# Altium footprint library ic-package.PCBLIB: 75 footprints (part 2 of 5)
Each footprint in its own frame and in the unit in brackets; x right, y up, seen from the top. Pads: shape width x height; smd on the part's side, far side on the other; paste and mask are expansions set on the pad; w line width, h text height; cw(c..) or ccw(c..) is an arc to the next point about the centre after c.
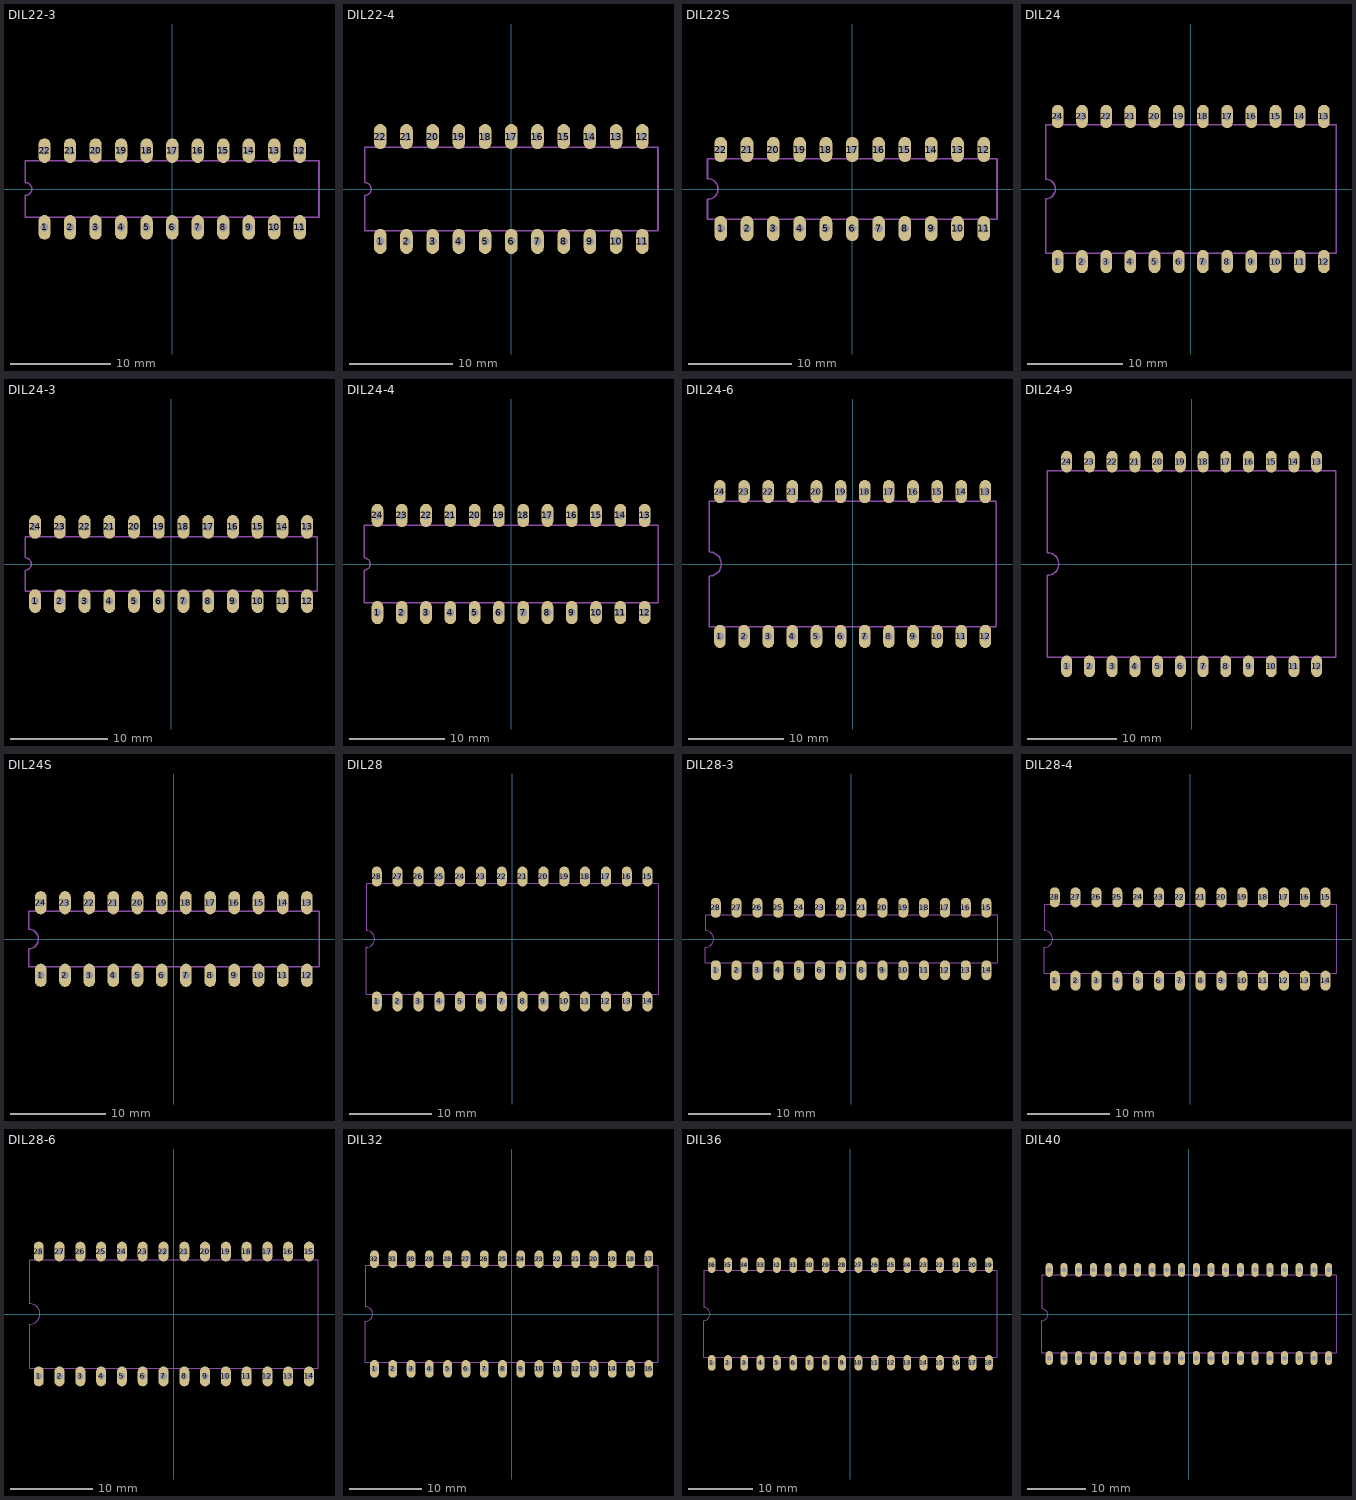
[diagram p1: the footprints below, top view; thin cyan lines are the x and y axes]

## DIL22-3 [mil]
pads (22):
  oval 48x96 hole 32: 1(-500,-150) 2(-400,-150) 3(-300,-150) 4(-200,-150) 5(-100,-150) 6(0,-150) 7(100,-150) 8(200,-150) 9(300,-150) 10(400,-150) 11(500,-150) 12(500,150) 13(400,150) 14(300,150) 15(200,150) 16(100,150) 17(0,150) 18(-100,150) 19(-200,150) 20(-300,150) 21(-400,150) 22(-500,150)
Mechanical 2:
  lines w6: -575,-110 -575,-25 ccw(c-575,0) -575,25 -575,110 575,110 575,-110 -575,-110

## DIL22-4 [mil]
pads (22):
  oval 48x96 hole 32: 1(-500,-200) 2(-400,-200) 3(-300,-200) 4(-200,-200) 5(-100,-200) 6(0,-200) 7(100,-200) 8(200,-200) 9(300,-200) 10(400,-200) 11(500,-200) 12(500,200) 13(400,200) 14(300,200) 15(200,200) 16(100,200) 17(0,200) 18(-100,200) 19(-200,200) 20(-300,200) 21(-400,200) 22(-500,200)
Mechanical 2:
  lines w6: -560,-160 -560,-25 ccw(c-560,0) -560,25 -560,160 560,160 560,-160 -560,-160

## DIL22S [mil]
pads (22):
  oval 48x96 hole 32: 1(-500,-150) 2(-400,-150) 3(-300,-150) 4(-200,-150) 5(-100,-150) 6(0,-150) 7(100,-150) 8(200,-150) 9(300,-150) 10(400,-150) 11(500,-150) 12(500,150) 13(400,150) 14(300,150) 15(200,150) 16(100,150) 17(0,150) 18(-100,150) 19(-200,150) 20(-300,150) 21(-400,150) 22(-500,150)
Mechanical 2:
  lines w6: -550,-115 550,-115 550,115 -550,115 -550,40 cw(c-550,0) -550,-40 -550,-115

## DIL24 [mil]
pads (24):
  oval 48x96 hole 32: 1(-550,-300) 2(-450,-300) 3(-350,-300) 4(-250,-300) 5(-150,-300) 6(-50,-300) 7(50,-300) 8(150,-300) 9(250,-300) 10(350,-300) 11(450,-300) 12(550,-300) 13(550,300) 14(450,300) 15(350,300) 16(250,300) 17(150,300) 18(50,300) 19(-50,300) 20(-150,300) 21(-250,300) 22(-350,300) 23(-450,300) 24(-550,300)
Mechanical 2:
  lines w6: -600,-265 -600,-40 ccw(c-600,0) -600,40 -600,265 600,265 600,-265 -600,-265

## DIL24-3 [mil]
pads (24):
  oval 48x96 hole 32: 1(-550,-150) 2(-450,-150) 3(-350,-150) 4(-250,-150) 5(-150,-150) 6(-50,-150) 7(50,-150) 8(150,-150) 9(250,-150) 10(350,-150) 11(450,-150) 12(550,-150) 13(550,150) 14(450,150) 15(350,150) 16(250,150) 17(150,150) 18(50,150) 19(-50,150) 20(-150,150) 21(-250,150) 22(-350,150) 23(-450,150) 24(-550,150)
Mechanical 2:
  lines w6: -590,-110 -590,-25 ccw(c-590,0) -590,25 -590,110 590,110 590,-110 -590,-110

## DIL24-4 [mil]
pads (24):
  oval 48x96 hole 32: 1(-550,-200) 2(-450,-200) 3(-350,-200) 4(-250,-200) 5(-150,-200) 6(-50,-200) 7(50,-200) 8(150,-200) 9(250,-200) 10(350,-200) 11(450,-200) 12(550,-200) 13(550,200) 14(450,200) 15(350,200) 16(250,200) 17(150,200) 18(50,200) 19(-50,200) 20(-150,200) 21(-250,200) 22(-350,200) 23(-450,200) 24(-550,200)
Mechanical 2:
  lines w6: -605,-160 -605,-25 ccw(c-605,0) -605,25 -605,160 605,160 605,-160 -605,-160

## DIL24-6 [mil]
pads (24):
  oval 48x96 hole 32: 1(-550,-300) 2(-450,-300) 3(-350,-300) 4(-250,-300) 5(-150,-300) 6(-50,-300) 7(50,-300) 8(150,-300) 9(250,-300) 10(350,-300) 11(450,-300) 12(550,-300) 13(550,300) 14(450,300) 15(350,300) 16(250,300) 17(150,300) 18(50,300) 19(-50,300) 20(-150,300) 21(-250,300) 22(-350,300) 23(-450,300) 24(-550,300)
Mechanical 2:
  lines w6: -595,-260 -595,-50 ccw(c-595,0) -595,50 -595,260 595,260 595,-260 -595,-260

## DIL24-9 [mil]
pads (24):
  oval 48x96 hole 32: 1(-550,-450) 2(-450,-450) 3(-350,-450) 4(-250,-450) 5(-150,-450) 6(-50,-450) 7(50,-450) 8(150,-450) 9(250,-450) 10(350,-450) 11(450,-450) 12(550,-450) 13(550,450) 14(450,450) 15(350,450) 16(250,450) 17(150,450) 18(50,450) 19(-50,450) 20(-150,450) 21(-250,450) 22(-350,450) 23(-450,450) 24(-550,450)
Mechanical 2:
  lines w6: -635,-410 -635,-50 ccw(c-635,0) -635,50 -635,410 635,410 635,-410 -635,-410

## DIL24S [mil]
pads (24):
  oval 48x96 hole 32: 1(-550,-150) 2(-450,-150) 3(-350,-150) 4(-250,-150) 5(-150,-150) 6(-50,-150) 7(50,-150) 8(150,-150) 9(250,-150) 10(350,-150) 11(450,-150) 12(550,-150) 13(550,150) 14(450,150) 15(350,150) 16(250,150) 17(150,150) 18(50,150) 19(-50,150) 20(-150,150) 21(-250,150) 22(-350,150) 23(-450,150) 24(-550,150)
Mechanical 2:
  lines w6: -600,-115 600,-115 600,115 -600,115 -600,40 cw(c-600,0) -600,-40 -600,-115

## DIL28 [mil]
pads (28):
  oval 48x96 hole 32: 1(-650,-300) 2(-550,-300) 3(-450,-300) 4(-350,-300) 5(-250,-300) 6(-150,-300) 7(-50,-300) 8(50,-300) 9(150,-300) 10(250,-300) 11(350,-300) 12(450,-300) 13(550,-300) 14(650,-300) 15(650,300) 16(550,300) 17(450,300) 18(350,300) 19(250,300) 20(150,300) 21(50,300) 22(-50,300) 23(-150,300) 24(-250,300) 25(-350,300) 26(-450,300) 27(-550,300) 28(-650,300)
Mechanical 2:
  lines w6: -700,-265 700,-265 700,265 -700,265 -700,40 cw(c-700,0) -700,-40 -700,-265

## DIL28-3 [mil]
pads (28):
  oval 48x96 hole 32: 1(-650,-150) 2(-550,-150) 3(-450,-150) 4(-350,-150) 5(-250,-150) 6(-150,-150) 7(-50,-150) 8(50,-150) 9(150,-150) 10(250,-150) 11(350,-150) 12(450,-150) 13(550,-150) 14(650,-150) 15(650,150) 16(550,150) 17(450,150) 18(350,150) 19(250,150) 20(150,150) 21(50,150) 22(-50,150) 23(-150,150) 24(-250,150) 25(-350,150) 26(-450,150) 27(-550,150) 28(-650,150)
Mechanical 2:
  lines w6: -700,-115 700,-115 700,115 -700,115 -700,40 cw(c-700,0) -700,-40 -700,-115

## DIL28-4 [mil]
pads (28):
  oval 48x96 hole 32: 1(-650,-200) 2(-550,-200) 3(-450,-200) 4(-350,-200) 5(-250,-200) 6(-150,-200) 7(-50,-200) 8(50,-200) 9(150,-200) 10(250,-200) 11(350,-200) 12(450,-200) 13(550,-200) 14(650,-200) 15(650,200) 16(550,200) 17(450,200) 18(350,200) 19(250,200) 20(150,200) 21(50,200) 22(-50,200) 23(-150,200) 24(-250,200) 25(-350,200) 26(-450,200) 27(-550,200) 28(-650,200)
Mechanical 2:
  lines w6: -700,-165 700,-165 700,165 -700,165 -700,40 cw(c-700,0) -700,-40 -700,-165

## DIL28-6 [mil]
pads (28):
  oval 48x96 hole 32: 1(-650,-300) 2(-550,-300) 3(-450,-300) 4(-350,-300) 5(-250,-300) 6(-150,-300) 7(-50,-300) 8(50,-300) 9(150,-300) 10(250,-300) 11(350,-300) 12(450,-300) 13(550,-300) 14(650,-300) 15(650,300) 16(550,300) 17(450,300) 18(350,300) 19(250,300) 20(150,300) 21(50,300) 22(-50,300) 23(-150,300) 24(-250,300) 25(-350,300) 26(-450,300) 27(-550,300) 28(-650,300)
Mechanical 2:
  lines w6: -695,-260 -695,-50 ccw(c-695,0) -695,50 -695,260 695,260 695,-260 -695,-260

## DIL32 [mil]
pads (32):
  oval 48x96 hole 32: 1(-750,-300) 2(-650,-300) 3(-550,-300) 4(-450,-300) 5(-350,-300) 6(-250,-300) 7(-150,-300) 8(-50,-300) 9(50,-300) 10(150,-300) 11(250,-300) 12(350,-300) 13(450,-300) 14(550,-300) 15(650,-300) 16(750,-300) 17(750,300) 18(650,300) 19(550,300) 20(450,300) 21(350,300) 22(250,300) 23(150,300) 24(50,300) 25(-50,300) 26(-150,300) 27(-250,300) 28(-350,300) 29(-450,300) 30(-550,300) 31(-650,300) 32(-750,300)
Mechanical 2:
  lines w6: -800,-265 800,-265 800,265 -800,265 -800,40 cw(c-800,0) -800,-40 -800,-265

## DIL36 [mil]
pads (36):
  oval 48x96 hole 32: 1(-850,-300) 2(-750,-300) 3(-650,-300) 4(-550,-300) 5(-450,-300) 6(-350,-300) 7(-250,-300) 8(-150,-300) 9(-50,-300) 10(50,-300) 11(150,-300) 12(250,-300) 13(350,-300) 14(450,-300) 15(550,-300) 16(650,-300) 17(750,-300) 18(850,-300) 19(850,300) 20(750,300) 21(650,300) 22(550,300) 23(450,300) 24(350,300) 25(250,300) 26(150,300) 27(50,300) 28(-50,300) 29(-150,300) 30(-250,300) 31(-350,300) 32(-450,300) 33(-550,300) 34(-650,300) 35(-750,300) 36(-850,300)
Mechanical 2:
  lines w6: -900,-265 900,-265 900,265 -900,265 -900,40 cw(c-900,0) -900,-40 -900,-265

## DIL40 [mil]
pads (40):
  oval 48x96 hole 32: 1(-950,-300) 2(-850,-300) 3(-750,-300) 4(-650,-300) 5(-550,-300) 6(-450,-300) 7(-350,-300) 8(-250,-300) 9(-150,-300) 10(-50,-300) 11(50,-300) 12(150,-300) 13(250,-300) 14(350,-300) 15(450,-300) 16(550,-300) 17(650,-300) 18(750,-300) 19(850,-300) 20(950,-300) 21(950,300) 22(850,300) 23(750,300) 24(650,300) 25(550,300) 26(450,300) 27(350,300) 28(250,300) 29(150,300) 30(50,300) 31(-50,300) 32(-150,300) 33(-250,300) 34(-350,300) 35(-450,300) 36(-550,300) 37(-650,300) 38(-750,300) 39(-850,300) 40(-950,300)
Mechanical 2:
  lines w6: -1000,-265 1000,-265 1000,265 -1000,265 -1000,35 cw(c-1000,-5) -1000,-45 -1000,-265